# Altium integrated library Analog Devices RF IF PLL Synthesizers and VCOs.IntLib: 183 symbols (part 11 of 15)
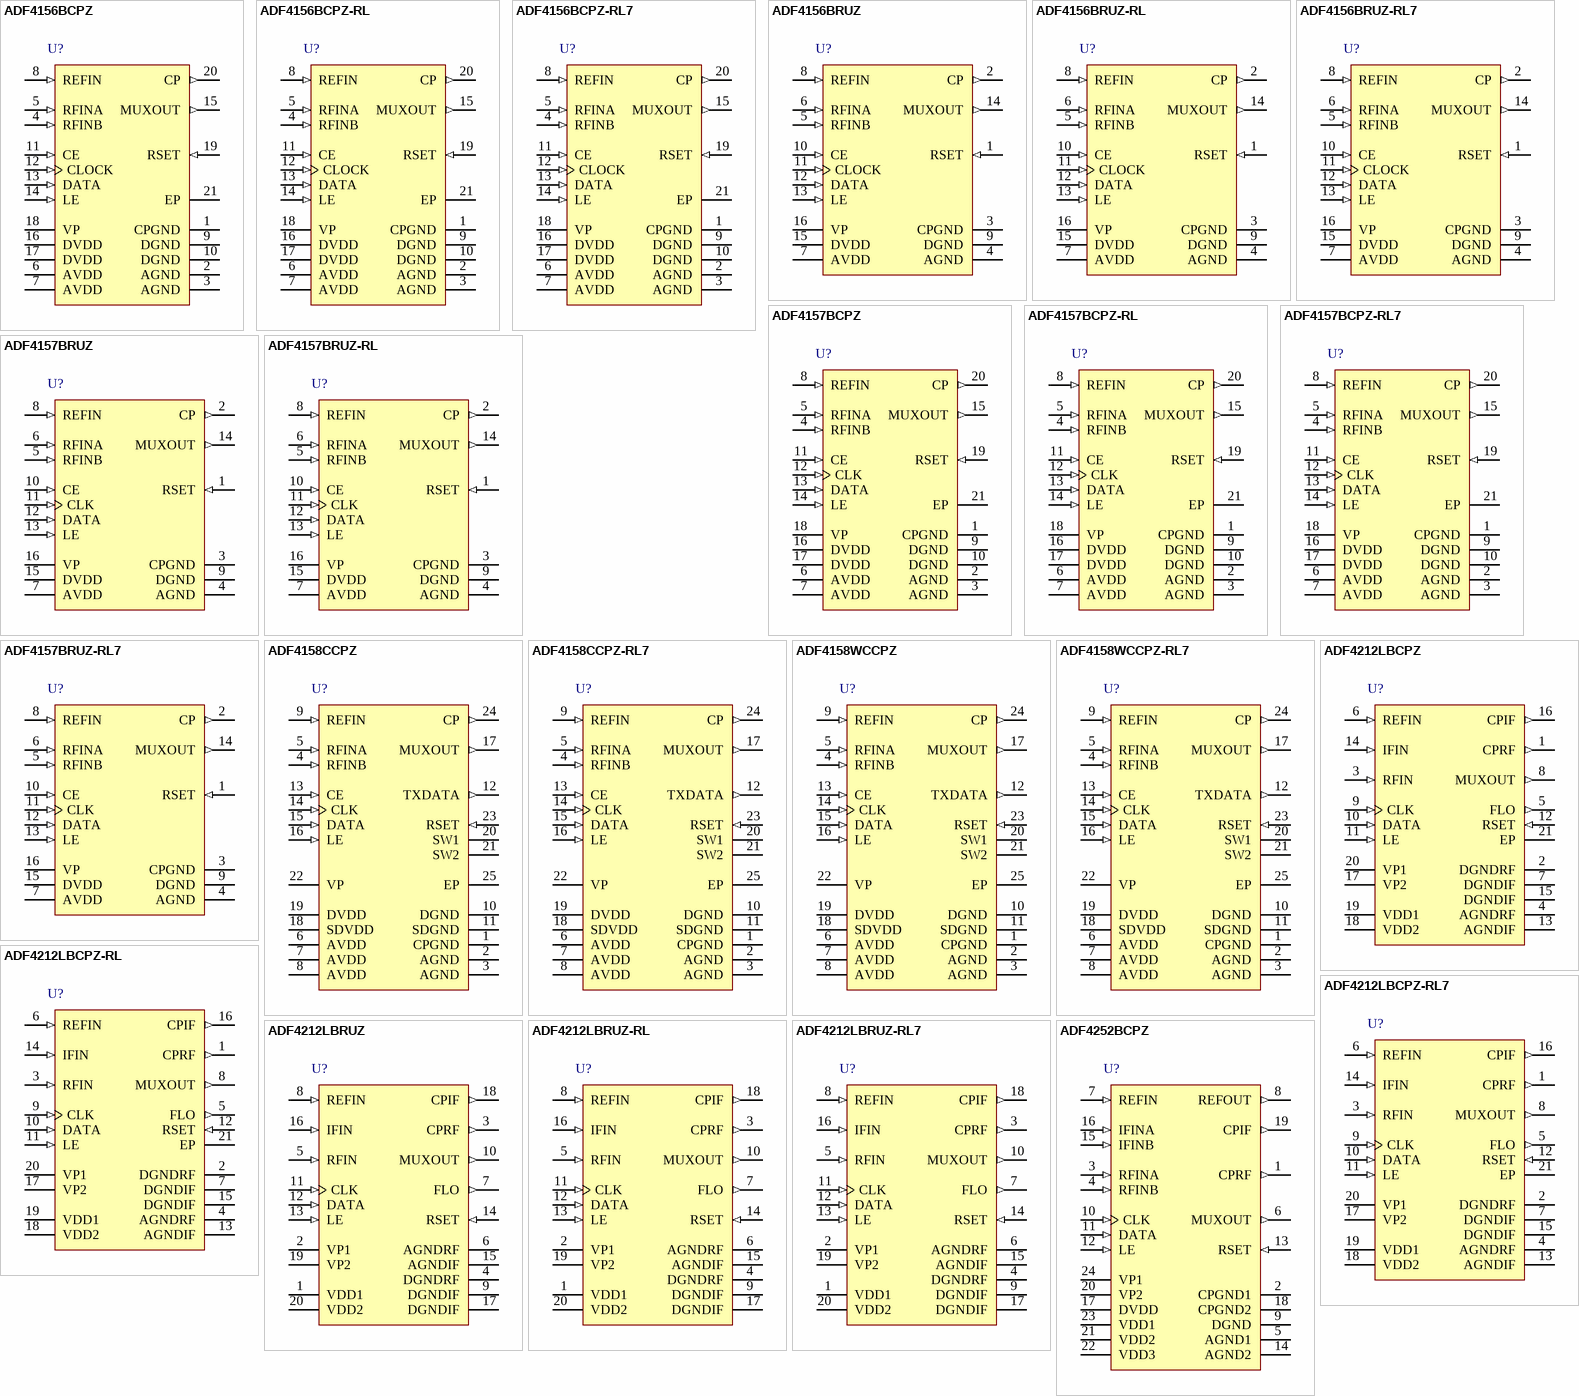
[diagram p18: symbols ADF4156BCPZ to ADF4252BCPZ]

## ADF4157BRUZ
designator U?
High Resolution 6 GHz Fractional-N Frequency Synthesizer, RU-16, Pb-Free, 96 Tube; Single/Dual: Single; Max RF Input (MHz): 6GHz; RF Prescalers: 4/5, 8/9; Max REFin (MHz): 300MHz; Norm Phase Noise (dBc/Hz): -211dBc; Supply Current: 23mA; DatasheetVersion: RevC; PackageVersion: Nov-2002; PackageReference: RU-16; PackageDescription: 16-Lead Thin Shrink Small Outline Package [TSSOP]; Code_JEDEC: MO-153AB; ComponentLink1Description: Manufacturer URL; ComponentLink1URL: www.analog.com; ComponentLink2Description: Datasheet; ComponentLink2URL: http://www.analog.com/static/imported-files/data_sheets/ADF4157.pdf; ComponentLink3Description: Package Specification; ComponentLink3URL: http://www.analog.com/static/imported-files/packages/36244347913743854010197452789RU16.pdf
footprint ADI-RU-16_N (TSOP, 16-Leads, Body 5x4.4mm, Pitch 0.65mm, IPC Medium Density)
footprint ADI-RU-16_L (TSOP, 16-Leads, Body 5x4.4mm, Pitch 0.65mm, IPC High Density)
footprint ADI-RU-16_M (TSOP, 16-Leads, Body 5x4.4mm, Pitch 0.65mm, IPC Low Density)
pins: 1 RSET (in) "Connecting a resistor between this pin and ground sets the maximum charge pump output current.", 2 CP (out) "Charge Pump Output. When enabled, this pin provides +/-ICP to the external loop filter, which, in turn, drives the external VCO.", 3 CPGND (power) "Charge Pump Ground. This is the ground return path for the charge pump.", 4 AGND (power) "Analog Ground. This is the ground return path of the prescaler.", 5 RFINB (in) "Complementary Input to the RF Prescaler. This point should be decoupled to the ground plane with a small bypass capacitor, typically 100 pF.", 6 RFINA (in) "Input to the RF Prescaler. This small-signal input is normally ac-coupled from the VCO.", 7 AVDD (power) "Positive Power Supply for the RF Section. Decoupling capacitors to the digital ground plane should be placed as close as possible to this pin. [see datasheet]", 8 REFIN (in) "Reference Input. This is a CMOS input with a nominal threshold of VDD/2 and an equivalent input resistance of 100 k ohm. [see datasheet]", 9 DGND (power) "Digital Ground.", 10 CE (in) "Chip Enable. A logic low on this pin powers down the device and puts the charge pump output into three-state mode.", 11 CLK (in) "Serial Clock Input. This serial clock is used to clock in the serial data to the registers. The data is latched into the input shift register on the CLK rising edge. [see datasheet]", 12 DATA (in) "Serial Data Input. The serial data is loaded MSB first with the three LSBs being the control bits. This input is a high impedance CMOS input.", 13 LE (in) "Load Enable, CMOS Input. When LE is high, the data stored in the input shift register is loaded into one of the five latches, with the latch selected using the control bits.", 14 MUXOUT (out) "This multiplexer output allows the lock detect, the scaled RF, or the scaled reference frequency to be accessed externally.", 15 DVDD (power) "Positive Power Supply for the Digital Section. Decoupling capacitors to the digital ground plane should be placed as close as possible to this pin. [see datasheet]", 16 VP (power) "Charge Pump Power Supply. This should be greater than or equal to VDD. In systems where VDD is 3 V, it can be set to 5.5 V and used to drive a VCO with a tuning range of up to 5.5 V."

## ADF4157BRUZ-RL
designator U?
High Resolution 6 GHz Fractional-N Frequency Synthesizer, RU-16, Pb-Free, 2500 Reel; Single/Dual: Single; Max RF Input (MHz): 6GHz; RF Prescalers: 4/5, 8/9; Max REFin (MHz): 300MHz; Norm Phase Noise (dBc/Hz): -211dBc; Supply Current: 23mA; DatasheetVersion: RevC; PackageVersion: Nov-2002; PackageReference: RU-16; PackageDescription: 16-Lead Thin Shrink Small Outline Package [TSSOP]; Code_JEDEC: MO-153AB; ComponentLink1Description: Manufacturer URL; ComponentLink1URL: www.analog.com; ComponentLink2Description: Datasheet; ComponentLink2URL: http://www.analog.com/static/imported-files/data_sheets/ADF4157.pdf; ComponentLink3Description: Package Specification; ComponentLink3URL: http://www.analog.com/static/imported-files/packages/36244347913743854010197452789RU16.pdf
footprint ADI-RU-16_N (TSOP, 16-Leads, Body 5x4.4mm, Pitch 0.65mm, IPC Medium Density)
footprint ADI-RU-16_L (TSOP, 16-Leads, Body 5x4.4mm, Pitch 0.65mm, IPC High Density)
footprint ADI-RU-16_M (TSOP, 16-Leads, Body 5x4.4mm, Pitch 0.65mm, IPC Low Density)
pins: 1 RSET (in) "Connecting a resistor between this pin and ground sets the maximum charge pump output current.", 2 CP (out) "Charge Pump Output. When enabled, this pin provides +/-ICP to the external loop filter, which, in turn, drives the external VCO.", 3 CPGND (power) "Charge Pump Ground. This is the ground return path for the charge pump.", 4 AGND (power) "Analog Ground. This is the ground return path of the prescaler.", 5 RFINB (in) "Complementary Input to the RF Prescaler. This point should be decoupled to the ground plane with a small bypass capacitor, typically 100 pF.", 6 RFINA (in) "Input to the RF Prescaler. This small-signal input is normally ac-coupled from the VCO.", 7 AVDD (power) "Positive Power Supply for the RF Section. Decoupling capacitors to the digital ground plane should be placed as close as possible to this pin. [see datasheet]", 8 REFIN (in) "Reference Input. This is a CMOS input with a nominal threshold of VDD/2 and an equivalent input resistance of 100 k ohm. [see datasheet]", 9 DGND (power) "Digital Ground.", 10 CE (in) "Chip Enable. A logic low on this pin powers down the device and puts the charge pump output into three-state mode.", 11 CLK (in) "Serial Clock Input. This serial clock is used to clock in the serial data to the registers. The data is latched into the input shift register on the CLK rising edge. [see datasheet]", 12 DATA (in) "Serial Data Input. The serial data is loaded MSB first with the three LSBs being the control bits. This input is a high impedance CMOS input.", 13 LE (in) "Load Enable, CMOS Input. When LE is high, the data stored in the input shift register is loaded into one of the five latches, with the latch selected using the control bits.", 14 MUXOUT (out) "This multiplexer output allows the lock detect, the scaled RF, or the scaled reference frequency to be accessed externally.", 15 DVDD (power) "Positive Power Supply for the Digital Section. Decoupling capacitors to the digital ground plane should be placed as close as possible to this pin. [see datasheet]", 16 VP (power) "Charge Pump Power Supply. This should be greater than or equal to VDD. In systems where VDD is 3 V, it can be set to 5.5 V and used to drive a VCO with a tuning range of up to 5.5 V."

## ADF4157BRUZ-RL7
designator U?
High Resolution 6 GHz Fractional-N Frequency Synthesizer, RU-16, Pb-Free, 1000 Reel; Single/Dual: Single; Max RF Input (MHz): 6GHz; RF Prescalers: 4/5, 8/9; Max REFin (MHz): 300MHz; Norm Phase Noise (dBc/Hz): -211dBc; Supply Current: 23mA; DatasheetVersion: RevC; PackageVersion: Nov-2002; PackageReference: RU-16; PackageDescription: 16-Lead Thin Shrink Small Outline Package [TSSOP]; Code_JEDEC: MO-153AB; ComponentLink1Description: Manufacturer URL; ComponentLink1URL: www.analog.com; ComponentLink2Description: Datasheet; ComponentLink2URL: http://www.analog.com/static/imported-files/data_sheets/ADF4157.pdf; ComponentLink3Description: Package Specification; ComponentLink3URL: http://www.analog.com/static/imported-files/packages/36244347913743854010197452789RU16.pdf
footprint ADI-RU-16_N (TSOP, 16-Leads, Body 5x4.4mm, Pitch 0.65mm, IPC Medium Density)
footprint ADI-RU-16_L (TSOP, 16-Leads, Body 5x4.4mm, Pitch 0.65mm, IPC High Density)
footprint ADI-RU-16_M (TSOP, 16-Leads, Body 5x4.4mm, Pitch 0.65mm, IPC Low Density)
pins: 1 RSET (in) "Connecting a resistor between this pin and ground sets the maximum charge pump output current.", 2 CP (out) "Charge Pump Output. When enabled, this pin provides +/-ICP to the external loop filter, which, in turn, drives the external VCO.", 3 CPGND (power) "Charge Pump Ground. This is the ground return path for the charge pump.", 4 AGND (power) "Analog Ground. This is the ground return path of the prescaler.", 5 RFINB (in) "Complementary Input to the RF Prescaler. This point should be decoupled to the ground plane with a small bypass capacitor, typically 100 pF.", 6 RFINA (in) "Input to the RF Prescaler. This small-signal input is normally ac-coupled from the VCO.", 7 AVDD (power) "Positive Power Supply for the RF Section. Decoupling capacitors to the digital ground plane should be placed as close as possible to this pin. [see datasheet]", 8 REFIN (in) "Reference Input. This is a CMOS input with a nominal threshold of VDD/2 and an equivalent input resistance of 100 k ohm. [see datasheet]", 9 DGND (power) "Digital Ground.", 10 CE (in) "Chip Enable. A logic low on this pin powers down the device and puts the charge pump output into three-state mode.", 11 CLK (in) "Serial Clock Input. This serial clock is used to clock in the serial data to the registers. The data is latched into the input shift register on the CLK rising edge. [see datasheet]", 12 DATA (in) "Serial Data Input. The serial data is loaded MSB first with the three LSBs being the control bits. This input is a high impedance CMOS input.", 13 LE (in) "Load Enable, CMOS Input. When LE is high, the data stored in the input shift register is loaded into one of the five latches, with the latch selected using the control bits.", 14 MUXOUT (out) "This multiplexer output allows the lock detect, the scaled RF, or the scaled reference frequency to be accessed externally.", 15 DVDD (power) "Positive Power Supply for the Digital Section. Decoupling capacitors to the digital ground plane should be placed as close as possible to this pin. [see datasheet]", 16 VP (power) "Charge Pump Power Supply. This should be greater than or equal to VDD. In systems where VDD is 3 V, it can be set to 5.5 V and used to drive a VCO with a tuning range of up to 5.5 V."

## ADF4158CCPZ
designator U?
Direct Modulation/Waveform Generating, 6.1 GHz Fractional-N Frequency Synthesizer, CP-24-7, Pb-Free, 490 Tray; Single/Dual: Single; Max RF Input (MHz): 6.1GHz; RF Prescalers: 4/5, 8/9; Max REFin (MHz): 260MHz; Norm Phase Noise (dBc/Hz): -216dBc; Supply Current: 23mA; DatasheetVersion: RevC; PackageVersion: 112108-A; PackageReference: CP-24-7; PackageDescription: 24-Lead Lead Frame Chip Scale Package [LFCSP_WQ]; Code_JEDEC: MO-220-WGGD; ComponentLink1Description: Manufacturer URL; ComponentLink1URL: www.analog.com; ComponentLink2Description: Datasheet; ComponentLink2URL: http://www.analog.com/static/imported-files/data_sheets/ADF4158.pdf; ComponentLink3Description: Package Specification; ComponentLink3URL: http://www.analog.com/static/imported-files/packages/PKG_PDF/LFCSP(CP)/CP_24_7.pdf
footprint ADI-CP-24-7_N (QFN, 24-Leads, Body 4x4mm, Pitch 0.5mm, Thermal Pad 2.6x2.6mm, IPC Medium Density)
footprint ADI-CP-24-7_L (QFN, 24-Leads, Body 4x4mm, Pitch 0.5mm, Thermal Pad 2.6x2.6mm, IPC High Density)
footprint ADI-CP-24-7_M (QFN, 24-Leads, Body 4x4mm, Pitch 0.5mm, Thermal Pad 2.6x2.6mm, IPC Low Density)
pins: 1 CPGND (power) "Charge Pump Ground. This is the ground return path for the charge pump.", 2 AGND (power) "Analog Ground. This is the ground return path of the prescaler.", 3 AGND (power) "Analog Ground. This is the ground return path of the prescaler.", 4 RFINB (in) "Complementary Input to the RF Prescaler. Decouple this point to the ground plane with a small bypass capacitor, typically 100 pF.", 5 RFINA (in) "Input to the RF Prescaler. This small-signal input is normally ac-coupled from the VCO.", 6 AVDD (power) "Positive Power Supply for the RF Section. Place decoupling capacitors to the digital ground plane as close as possible to this pin. AVDD must have the same voltage as DVDD.", 7 AVDD (power) "Positive Power Supply for the RF Section. Place decoupling capacitors to the digital ground plane as close as possible to this pin. AVDD must have the same voltage as DVDD.", 8 AVDD (power) "Positive Power Supply for the RF Section. Place decoupling capacitors to the digital ground plane as close as possible to this pin. AVDD must have the same voltage as DVDD.", 9 REFIN (in) "Reference Input. This is a CMOS input with a nominal threshold of VDD/2 and an equivalent input resistance of 100 k ohm. [see datasheet]", 10 DGND (power) "Digital Ground.", 11 SDGND (power) "Digital Sigma-Delta Modulator Ground. Ground return path for the Sigma-Delta modulator.", 12 TXDATA (out) "Tx Data Pin. Provide data to be transmitted in FSK or PSK mode on this pin.", 13 CE (in) "Chip Enable. A logic low on this pin powers down the device and puts the charge pump output into three-state mode.", 14 CLK (in) "Serial Clock Input. This serial clock is used to clock in the serial data to the registers. The data is latched into the shift register on the CLK rising edge. [see datasheet]", 15 DATA (in) "Serial Data Input. The serial data is loaded MSB first with the three LSBs being the control bits. This input is a high impedance CMOS input.", 16 LE (in) "Load Enable, CMOS Input. When LE is high, the data stored in the shift registers is loaded into one of the eight latches, with the latch being selected using the control bits.", 17 MUXOUT (out) "Multiplexer Output. This pin allows either the RF lock detect, the scaled RF, or the scaled reference frequency to be accessed externally.", 18 SDVDD (power) "Power Supply Pin for the Digital Sigma-Delta Modulator. This pin should be the same voltage as AVDD. Place decoupling capacitors to the ground plane as close as possible to this pin.", 19 DVDD (power) "Positive Power Supply for the Digital Section. Place decoupling capacitors to the digital ground plane as close as possible to this pin. DVDD must have the same voltage as AVDD.", 20 SW1 "Switches for Fast Lock.", 21 SW2 "Switches for Fast Lock.", 22 VP (power) "Charge Pump Power Supply. This should be greater than or equal to VDD. In systems where VDD is 3 V, it can be set to 5.5 V and used to drive a VCO with a tuning range of up to 5.5 V.", 23 RSET (in) "Connecting a resistor between this pin and ground sets the maximum charge pump output current.", 24 CP (out) "Charge Pump Output. When enabled, this provides +/-ICP to the external loop filter, which in turn drives the external VCO.", 25 EP (power) "Exposed Paddle. The LFCSP has an exposed paddle that must be connected to GND."

## ADF4158CCPZ-RL7
designator U?
Direct Modulation/Waveform Generating, 6.1 GHz Fractional-N Frequency Synthesizer, CP-24-7, Pb-Free, 1500 Reel; Single/Dual: Single; Max RF Input (MHz): 6.1GHz; RF Prescalers: 4/5, 8/9; Max REFin (MHz): 260MHz; Norm Phase Noise (dBc/Hz): -216dBc; Supply Current: 23mA; DatasheetVersion: RevC; PackageVersion: 112108-A; PackageReference: CP-24-7; PackageDescription: 24-Lead Lead Frame Chip Scale Package [LFCSP_WQ]; Code_JEDEC: MO-220-WGGD; ComponentLink1Description: Manufacturer URL; ComponentLink1URL: www.analog.com; ComponentLink2Description: Datasheet; ComponentLink2URL: http://www.analog.com/static/imported-files/data_sheets/ADF4158.pdf; ComponentLink3Description: Package Specification; ComponentLink3URL: http://www.analog.com/static/imported-files/packages/PKG_PDF/LFCSP(CP)/CP_24_7.pdf
footprint ADI-CP-24-7_N (QFN, 24-Leads, Body 4x4mm, Pitch 0.5mm, Thermal Pad 2.6x2.6mm, IPC Medium Density)
footprint ADI-CP-24-7_L (QFN, 24-Leads, Body 4x4mm, Pitch 0.5mm, Thermal Pad 2.6x2.6mm, IPC High Density)
footprint ADI-CP-24-7_M (QFN, 24-Leads, Body 4x4mm, Pitch 0.5mm, Thermal Pad 2.6x2.6mm, IPC Low Density)
pins: 1 CPGND (power) "Charge Pump Ground. This is the ground return path for the charge pump.", 2 AGND (power) "Analog Ground. This is the ground return path of the prescaler.", 3 AGND (power) "Analog Ground. This is the ground return path of the prescaler.", 4 RFINB (in) "Complementary Input to the RF Prescaler. Decouple this point to the ground plane with a small bypass capacitor, typically 100 pF.", 5 RFINA (in) "Input to the RF Prescaler. This small-signal input is normally ac-coupled from the VCO.", 6 AVDD (power) "Positive Power Supply for the RF Section. Place decoupling capacitors to the digital ground plane as close as possible to this pin. AVDD must have the same voltage as DVDD.", 7 AVDD (power) "Positive Power Supply for the RF Section. Place decoupling capacitors to the digital ground plane as close as possible to this pin. AVDD must have the same voltage as DVDD.", 8 AVDD (power) "Positive Power Supply for the RF Section. Place decoupling capacitors to the digital ground plane as close as possible to this pin. AVDD must have the same voltage as DVDD.", 9 REFIN (in) "Reference Input. This is a CMOS input with a nominal threshold of VDD/2 and an equivalent input resistance of 100 k ohm. [see datasheet]", 10 DGND (power) "Digital Ground.", 11 SDGND (power) "Digital Sigma-Delta Modulator Ground. Ground return path for the Sigma-Delta modulator.", 12 TXDATA (out) "Tx Data Pin. Provide data to be transmitted in FSK or PSK mode on this pin.", 13 CE (in) "Chip Enable. A logic low on this pin powers down the device and puts the charge pump output into three-state mode.", 14 CLK (in) "Serial Clock Input. This serial clock is used to clock in the serial data to the registers. The data is latched into the shift register on the CLK rising edge. [see datasheet]", 15 DATA (in) "Serial Data Input. The serial data is loaded MSB first with the three LSBs being the control bits. This input is a high impedance CMOS input.", 16 LE (in) "Load Enable, CMOS Input. When LE is high, the data stored in the shift registers is loaded into one of the eight latches, with the latch being selected using the control bits.", 17 MUXOUT (out) "Multiplexer Output. This pin allows either the RF lock detect, the scaled RF, or the scaled reference frequency to be accessed externally.", 18 SDVDD (power) "Power Supply Pin for the Digital Sigma-Delta Modulator. This pin should be the same voltage as AVDD. Place decoupling capacitors to the ground plane as close as possible to this pin.", 19 DVDD (power) "Positive Power Supply for the Digital Section. Place decoupling capacitors to the digital ground plane as close as possible to this pin. DVDD must have the same voltage as AVDD.", 20 SW1 "Switches for Fast Lock.", 21 SW2 "Switches for Fast Lock.", 22 VP (power) "Charge Pump Power Supply. This should be greater than or equal to VDD. In systems where VDD is 3 V, it can be set to 5.5 V and used to drive a VCO with a tuning range of up to 5.5 V.", 23 RSET (in) "Connecting a resistor between this pin and ground sets the maximum charge pump output current.", 24 CP (out) "Charge Pump Output. When enabled, this provides +/-ICP to the external loop filter, which in turn drives the external VCO.", 25 EP (power) "Exposed Paddle. The LFCSP has an exposed paddle that must be connected to GND."

## ADF4158WCCPZ
designator U?
Direct Modulation/Waveform Generating, 6.1 GHz Fractional-N Frequency Synthesizer, CP-24-7, Pb-Free, Tray; Single/Dual: Single; Max RF Input (MHz): 6.1GHz; RF Prescalers: 4/5, 8/9; Max REFin (MHz): 260MHz; Norm Phase Noise (dBc/Hz): -216dBc; Supply Current: 23mA; DatasheetVersion: RevC; PackageVersion: 112108-A; PackageReference: CP-24-7; PackageDescription: 24-Lead Lead Frame Chip Scale Package [LFCSP_WQ]; Code_JEDEC: MO-220-WGGD; ComponentLink1Description: Manufacturer URL; ComponentLink1URL: www.analog.com; ComponentLink2Description: Datasheet; ComponentLink2URL: http://www.analog.com/static/imported-files/data_sheets/ADF4158.pdf; ComponentLink3Description: Package Specification; ComponentLink3URL: http://www.analog.com/static/imported-files/packages/PKG_PDF/LFCSP(CP)/CP_24_7.pdf
footprint ADI-CP-24-7_N (QFN, 24-Leads, Body 4x4mm, Pitch 0.5mm, Thermal Pad 2.6x2.6mm, IPC Medium Density)
footprint ADI-CP-24-7_L (QFN, 24-Leads, Body 4x4mm, Pitch 0.5mm, Thermal Pad 2.6x2.6mm, IPC High Density)
footprint ADI-CP-24-7_M (QFN, 24-Leads, Body 4x4mm, Pitch 0.5mm, Thermal Pad 2.6x2.6mm, IPC Low Density)
pins: 1 CPGND (power) "Charge Pump Ground. This is the ground return path for the charge pump.", 2 AGND (power) "Analog Ground. This is the ground return path of the prescaler.", 3 AGND (power) "Analog Ground. This is the ground return path of the prescaler.", 4 RFINB (in) "Complementary Input to the RF Prescaler. Decouple this point to the ground plane with a small bypass capacitor, typically 100 pF.", 5 RFINA (in) "Input to the RF Prescaler. This small-signal input is normally ac-coupled from the VCO.", 6 AVDD (power) "Positive Power Supply for the RF Section. Place decoupling capacitors to the digital ground plane as close as possible to this pin. AVDD must have the same voltage as DVDD.", 7 AVDD (power) "Positive Power Supply for the RF Section. Place decoupling capacitors to the digital ground plane as close as possible to this pin. AVDD must have the same voltage as DVDD.", 8 AVDD (power) "Positive Power Supply for the RF Section. Place decoupling capacitors to the digital ground plane as close as possible to this pin. AVDD must have the same voltage as DVDD.", 9 REFIN (in) "Reference Input. This is a CMOS input with a nominal threshold of VDD/2 and an equivalent input resistance of 100 k ohm. [see datasheet]", 10 DGND (power) "Digital Ground.", 11 SDGND (power) "Digital Sigma-Delta Modulator Ground. Ground return path for the Sigma-Delta modulator.", 12 TXDATA (out) "Tx Data Pin. Provide data to be transmitted in FSK or PSK mode on this pin.", 13 CE (in) "Chip Enable. A logic low on this pin powers down the device and puts the charge pump output into three-state mode.", 14 CLK (in) "Serial Clock Input. This serial clock is used to clock in the serial data to the registers. The data is latched into the shift register on the CLK rising edge. [see datasheet]", 15 DATA (in) "Serial Data Input. The serial data is loaded MSB first with the three LSBs being the control bits. This input is a high impedance CMOS input.", 16 LE (in) "Load Enable, CMOS Input. When LE is high, the data stored in the shift registers is loaded into one of the eight latches, with the latch being selected using the control bits.", 17 MUXOUT (out) "Multiplexer Output. This pin allows either the RF lock detect, the scaled RF, or the scaled reference frequency to be accessed externally.", 18 SDVDD (power) "Power Supply Pin for the Digital Sigma-Delta Modulator. This pin should be the same voltage as AVDD. Place decoupling capacitors to the ground plane as close as possible to this pin.", 19 DVDD (power) "Positive Power Supply for the Digital Section. Place decoupling capacitors to the digital ground plane as close as possible to this pin. DVDD must have the same voltage as AVDD.", 20 SW1 "Switches for Fast Lock.", 21 SW2 "Switches for Fast Lock.", 22 VP (power) "Charge Pump Power Supply. This should be greater than or equal to VDD. In systems where VDD is 3 V, it can be set to 5.5 V and used to drive a VCO with a tuning range of up to 5.5 V.", 23 RSET (in) "Connecting a resistor between this pin and ground sets the maximum charge pump output current.", 24 CP (out) "Charge Pump Output. When enabled, this provides +/-ICP to the external loop filter, which in turn drives the external VCO.", 25 EP (power) "Exposed Paddle. The LFCSP has an exposed paddle that must be connected to GND."

## ADF4158WCCPZ-RL7
designator U?
Direct Modulation/Waveform Generating, 6.1 GHz Fractional-N Frequency Synthesizer, CP-24-7, Pb-Free, 1500 Reel; Single/Dual: Single; Max RF Input (MHz): 6.1GHz; RF Prescalers: 4/5, 8/9; Max REFin (MHz): 260MHz; Norm Phase Noise (dBc/Hz): -216dBc; Supply Current: 23mA; DatasheetVersion: RevC; PackageVersion: 112108-A; PackageReference: CP-24-7; PackageDescription: 24-Lead Lead Frame Chip Scale Package [LFCSP_WQ]; Code_JEDEC: MO-220-WGGD; ComponentLink1Description: Manufacturer URL; ComponentLink1URL: www.analog.com; ComponentLink2Description: Datasheet; ComponentLink2URL: http://www.analog.com/static/imported-files/data_sheets/ADF4158.pdf; ComponentLink3Description: Package Specification; ComponentLink3URL: http://www.analog.com/static/imported-files/packages/PKG_PDF/LFCSP(CP)/CP_24_7.pdf
footprint ADI-CP-24-7_N (QFN, 24-Leads, Body 4x4mm, Pitch 0.5mm, Thermal Pad 2.6x2.6mm, IPC Medium Density)
footprint ADI-CP-24-7_L (QFN, 24-Leads, Body 4x4mm, Pitch 0.5mm, Thermal Pad 2.6x2.6mm, IPC High Density)
footprint ADI-CP-24-7_M (QFN, 24-Leads, Body 4x4mm, Pitch 0.5mm, Thermal Pad 2.6x2.6mm, IPC Low Density)
pins: 1 CPGND (power) "Charge Pump Ground. This is the ground return path for the charge pump.", 2 AGND (power) "Analog Ground. This is the ground return path of the prescaler.", 3 AGND (power) "Analog Ground. This is the ground return path of the prescaler.", 4 RFINB (in) "Complementary Input to the RF Prescaler. Decouple this point to the ground plane with a small bypass capacitor, typically 100 pF.", 5 RFINA (in) "Input to the RF Prescaler. This small-signal input is normally ac-coupled from the VCO.", 6 AVDD (power) "Positive Power Supply for the RF Section. Place decoupling capacitors to the digital ground plane as close as possible to this pin. AVDD must have the same voltage as DVDD.", 7 AVDD (power) "Positive Power Supply for the RF Section. Place decoupling capacitors to the digital ground plane as close as possible to this pin. AVDD must have the same voltage as DVDD.", 8 AVDD (power) "Positive Power Supply for the RF Section. Place decoupling capacitors to the digital ground plane as close as possible to this pin. AVDD must have the same voltage as DVDD.", 9 REFIN (in) "Reference Input. This is a CMOS input with a nominal threshold of VDD/2 and an equivalent input resistance of 100 k ohm. [see datasheet]", 10 DGND (power) "Digital Ground.", 11 SDGND (power) "Digital Sigma-Delta Modulator Ground. Ground return path for the Sigma-Delta modulator.", 12 TXDATA (out) "Tx Data Pin. Provide data to be transmitted in FSK or PSK mode on this pin.", 13 CE (in) "Chip Enable. A logic low on this pin powers down the device and puts the charge pump output into three-state mode.", 14 CLK (in) "Serial Clock Input. This serial clock is used to clock in the serial data to the registers. The data is latched into the shift register on the CLK rising edge. [see datasheet]", 15 DATA (in) "Serial Data Input. The serial data is loaded MSB first with the three LSBs being the control bits. This input is a high impedance CMOS input.", 16 LE (in) "Load Enable, CMOS Input. When LE is high, the data stored in the shift registers is loaded into one of the eight latches, with the latch being selected using the control bits.", 17 MUXOUT (out) "Multiplexer Output. This pin allows either the RF lock detect, the scaled RF, or the scaled reference frequency to be accessed externally.", 18 SDVDD (power) "Power Supply Pin for the Digital Sigma-Delta Modulator. This pin should be the same voltage as AVDD. Place decoupling capacitors to the ground plane as close as possible to this pin.", 19 DVDD (power) "Positive Power Supply for the Digital Section. Place decoupling capacitors to the digital ground plane as close as possible to this pin. DVDD must have the same voltage as AVDD.", 20 SW1 "Switches for Fast Lock.", 21 SW2 "Switches for Fast Lock.", 22 VP (power) "Charge Pump Power Supply. This should be greater than or equal to VDD. In systems where VDD is 3 V, it can be set to 5.5 V and used to drive a VCO with a tuning range of up to 5.5 V.", 23 RSET (in) "Connecting a resistor between this pin and ground sets the maximum charge pump output current.", 24 CP (out) "Charge Pump Output. When enabled, this provides +/-ICP to the external loop filter, which in turn drives the external VCO.", 25 EP (power) "Exposed Paddle. The LFCSP has an exposed paddle that must be connected to GND."

## ADF4212LBCPZ
designator U?
Dual Low Power PLL Frequency Synthesizer, CP-20-1, Pb-Free, 490 Tray; Max RF Input (MHz): 2.4GHz; RF Prescalers: 16/17, 32/33, 64/65, 8/9; Max REFin (MHz): 150MHz; Norm Phase Noise (dBc/Hz): -215dBc; Frequency Range: 200MHz-2.4GHz; Supply Current: 7.5mA; DatasheetVersion: Rev. C; PackageVersion: 012508-B; PackageReference: CP-20-1; PackageDescription: 20-Lead Lead Frame Chip Scale Package [LFCSP_VQ]; Single/Dual: Dual; Code_JEDEC: MO-220-VGGD-1; ComponentLink1Description: Manufacturer URL; ComponentLink1URL: www.analog.com; ComponentLink2Description: Datasheet; ComponentLink2URL: http://www.analog.com/static/imported-files/data_sheets/ADF4212L.pdf; ComponentLink3Description: Package Specification; ComponentLink3URL: http://www.analog.com/static/imported-files/packages/PKG_PDF/LFCSP(CP)/CP_20_1.pdf
footprint ADI-CP-20-1_N (QFN, 20-Leads, Body 4x4mm, Pitch 0.5mm, Thermal Pad 2.2x2.2mm, IPC Medium Density)
footprint ADI-CP-20-1_L (QFN, 20-Leads, Body 4x4mm, Pitch 0.5mm, Thermal Pad 2.2x2.2mm, IPC High Density)
footprint ADI-CP-20-1_M (QFN, 20-Leads, Body 4x4mm, Pitch 0.5mm, Thermal Pad 2.2x2.2mm, IPC Low Density)
pins: 1 CPRF (out) "RF Charge Pump Output. When enabled, this provides +/-ICP to the external RF loop filter, which in turn drives the external RF VCO", 2 DGNDRF (power) "Digital Ground Pin for the RF Digital Circuitry", 3 RFIN (in) "Input to the RF Prescaler. This small signal input is normally ac-coupled from the RF VCO", 4 AGNDRF (power) "Ground Pin for the RF Analog Circuitry", 5 FLO (out) "Multiplexed Output of RF/IF Programmable or Reference Dividers, RF/IF Fastlock Mode. CMOS output", 6 REFIN (in) "Reference Input. This is a CMOS input with a nominal threshold of VDD/2 and an equivalent input resistance of 100 k ohm. See Figure 26. [see datasheet]", 7 DGNDIF (power) "Digital Ground Pin for the IF Digital, Interface, and Control Circuitry", 8 MUXOUT (out) "This multiplexer output allows either the IF/RF lock detect, the scaled RF, the scaled IF, or the scaled reference frequency to be accessed externally", 9 CLK (in) "Serial Clock Input. This serial clock is used to clock in the serial data to the registers. The data is latched into the 24-bit shift register on the CLK rising edge. [see datasheet]", 10 DATA (in) "Serial Data Input. The serial data is loaded MSB first with the two LSBs being the control bits. This input is a high impedance CMOS input", 11 LE (in) "Load Enable, CMOS Input. When LE goes high, the data stored in the shift registers is loaded into one of the four latches, with the latch selected using the control bits", 12 RSET (in) "Connecting a resistor between this pin and ground sets the maximum RF and IF charge pump output current. The nominal voltage potential at the RSET pin is 0.66 V", 13 AGNDIF (power) "Ground Pin for the IF Analog Circuitry", 14 IFIN (in) "Input to the IF Prescaler. This small signal input is normally ac-coupled from the IF VCO", 15 DGNDIF (power) "Digital Ground Pin for the IF Digital, Interface, and Control Circuitry", 16 CPIF (out) "Output from the IF Charge Pump. This is normally connected to a loop filter that drives the input to an external VCO", 17 VP2 (power) "Power Supply for the IF Charge Pump. This should be greater than or equal to VDD2.", 18 VDD2 (power) "Power Supply for the IF, Digital, and Interface Section. Decoupling capacitors to the ground plane should be placed as close as possible to this pin. [see datasheet]", 19 VDD1 (power) "Power Supply for the RF Section. Decoupling capacitors to the ground plane should be placed as close as possible to this pin. VDD1 should have a value of between 2.6 V and 3.3 V. [see datasheet]", 20 VP1 (power) "Power Supply for the IF Charge Pump. This should be greater than or equal to VDD2.", 21 EP (power) "It is recommended that the exposed pad be thermally connected to a copper plane for enhanced thermal performance. The pad should be grounded as well"

## ADF4212LBCPZ-RL
designator U?
Dual Low Power PLL Frequency Synthesizer, CP-20-1, Pb-Free, 5000 Reel; Max RF Input (MHz): 2.4GHz; RF Prescalers: 16/17, 32/33, 64/65, 8/9; Max REFin (MHz): 150MHz; Norm Phase Noise (dBc/Hz): -215dBc; Frequency Range: 200MHz-2.4GHz; Supply Current: 7.5mA; DatasheetVersion: Rev. C; PackageVersion: 012508-B; PackageReference: CP-20-1; PackageDescription: 20-Lead Lead Frame Chip Scale Package [LFCSP_VQ]; Single/Dual: Dual; Code_JEDEC: MO-220-VGGD-1; ComponentLink1Description: Manufacturer URL; ComponentLink1URL: www.analog.com; ComponentLink2Description: Datasheet; ComponentLink2URL: http://www.analog.com/static/imported-files/data_sheets/ADF4212L.pdf; ComponentLink3Description: Package Specification; ComponentLink3URL: http://www.analog.com/static/imported-files/packages/PKG_PDF/LFCSP(CP)/CP_20_1.pdf
footprint ADI-CP-20-1_N (QFN, 20-Leads, Body 4x4mm, Pitch 0.5mm, Thermal Pad 2.2x2.2mm, IPC Medium Density)
footprint ADI-CP-20-1_L (QFN, 20-Leads, Body 4x4mm, Pitch 0.5mm, Thermal Pad 2.2x2.2mm, IPC High Density)
footprint ADI-CP-20-1_M (QFN, 20-Leads, Body 4x4mm, Pitch 0.5mm, Thermal Pad 2.2x2.2mm, IPC Low Density)
pins: 1 CPRF (out) "RF Charge Pump Output. When enabled, this provides +/-ICP to the external RF loop filter, which in turn drives the external RF VCO", 2 DGNDRF (power) "Digital Ground Pin for the RF Digital Circuitry", 3 RFIN (in) "Input to the RF Prescaler. This small signal input is normally ac-coupled from the RF VCO", 4 AGNDRF (power) "Ground Pin for the RF Analog Circuitry", 5 FLO (out) "Multiplexed Output of RF/IF Programmable or Reference Dividers, RF/IF Fastlock Mode. CMOS output", 6 REFIN (in) "Reference Input. This is a CMOS input with a nominal threshold of VDD/2 and an equivalent input resistance of 100 k ohm. See Figure 26. [see datasheet]", 7 DGNDIF (power) "Digital Ground Pin for the IF Digital, Interface, and Control Circuitry", 8 MUXOUT (out) "This multiplexer output allows either the IF/RF lock detect, the scaled RF, the scaled IF, or the scaled reference frequency to be accessed externally", 9 CLK (in) "Serial Clock Input. This serial clock is used to clock in the serial data to the registers. The data is latched into the 24-bit shift register on the CLK rising edge. [see datasheet]", 10 DATA (in) "Serial Data Input. The serial data is loaded MSB first with the two LSBs being the control bits. This input is a high impedance CMOS input", 11 LE (in) "Load Enable, CMOS Input. When LE goes high, the data stored in the shift registers is loaded into one of the four latches, with the latch selected using the control bits", 12 RSET (in) "Connecting a resistor between this pin and ground sets the maximum RF and IF charge pump output current. The nominal voltage potential at the RSET pin is 0.66 V", 13 AGNDIF (power) "Ground Pin for the IF Analog Circuitry", 14 IFIN (in) "Input to the IF Prescaler. This small signal input is normally ac-coupled from the IF VCO", 15 DGNDIF (power) "Digital Ground Pin for the IF Digital, Interface, and Control Circuitry", 16 CPIF (out) "Output from the IF Charge Pump. This is normally connected to a loop filter that drives the input to an external VCO", 17 VP2 (power) "Power Supply for the IF Charge Pump. This should be greater than or equal to VDD2.", 18 VDD2 (power) "Power Supply for the IF, Digital, and Interface Section. Decoupling capacitors to the ground plane should be placed as close as possible to this pin. [see datasheet]", 19 VDD1 (power) "Power Supply for the RF Section. Decoupling capacitors to the ground plane should be placed as close as possible to this pin. VDD1 should have a value of between 2.6 V and 3.3 V. [see datasheet]", 20 VP1 (power) "Power Supply for the IF Charge Pump. This should be greater than or equal to VDD2.", 21 EP (power) "It is recommended that the exposed pad be thermally connected to a copper plane for enhanced thermal performance. The pad should be grounded as well"

## ADF4212LBCPZ-RL7
designator U?
Dual Low Power PLL Frequency Synthesizer, CP-20-1, Pb-Free, 1500 Reel; Max RF Input (MHz): 2.4GHz; RF Prescalers: 16/17, 32/33, 64/65, 8/9; Max REFin (MHz): 150MHz; Norm Phase Noise (dBc/Hz): -215dBc; Frequency Range: 200MHz-2.4GHz; Supply Current: 7.5mA; DatasheetVersion: Rev. C; PackageVersion: 012508-B; PackageReference: CP-20-1; PackageDescription: 20-Lead Lead Frame Chip Scale Package [LFCSP_VQ]; Single/Dual: Dual; Code_JEDEC: MO-220-VGGD-1; ComponentLink1Description: Manufacturer URL; ComponentLink1URL: www.analog.com; ComponentLink2Description: Datasheet; ComponentLink2URL: http://www.analog.com/static/imported-files/data_sheets/ADF4212L.pdf; ComponentLink3Description: Package Specification; ComponentLink3URL: http://www.analog.com/static/imported-files/packages/PKG_PDF/LFCSP(CP)/CP_20_1.pdf
footprint ADI-CP-20-1_N (QFN, 20-Leads, Body 4x4mm, Pitch 0.5mm, Thermal Pad 2.2x2.2mm, IPC Medium Density)
footprint ADI-CP-20-1_L (QFN, 20-Leads, Body 4x4mm, Pitch 0.5mm, Thermal Pad 2.2x2.2mm, IPC High Density)
footprint ADI-CP-20-1_M (QFN, 20-Leads, Body 4x4mm, Pitch 0.5mm, Thermal Pad 2.2x2.2mm, IPC Low Density)
pins: 1 CPRF (out) "RF Charge Pump Output. When enabled, this provides +/-ICP to the external RF loop filter, which in turn drives the external RF VCO", 2 DGNDRF (power) "Digital Ground Pin for the RF Digital Circuitry", 3 RFIN (in) "Input to the RF Prescaler. This small signal input is normally ac-coupled from the RF VCO", 4 AGNDRF (power) "Ground Pin for the RF Analog Circuitry", 5 FLO (out) "Multiplexed Output of RF/IF Programmable or Reference Dividers, RF/IF Fastlock Mode. CMOS output", 6 REFIN (in) "Reference Input. This is a CMOS input with a nominal threshold of VDD/2 and an equivalent input resistance of 100 k ohm. See Figure 26. [see datasheet]", 7 DGNDIF (power) "Digital Ground Pin for the IF Digital, Interface, and Control Circuitry", 8 MUXOUT (out) "This multiplexer output allows either the IF/RF lock detect, the scaled RF, the scaled IF, or the scaled reference frequency to be accessed externally", 9 CLK (in) "Serial Clock Input. This serial clock is used to clock in the serial data to the registers. The data is latched into the 24-bit shift register on the CLK rising edge. [see datasheet]", 10 DATA (in) "Serial Data Input. The serial data is loaded MSB first with the two LSBs being the control bits. This input is a high impedance CMOS input", 11 LE (in) "Load Enable, CMOS Input. When LE goes high, the data stored in the shift registers is loaded into one of the four latches, with the latch selected using the control bits", 12 RSET (in) "Connecting a resistor between this pin and ground sets the maximum RF and IF charge pump output current. The nominal voltage potential at the RSET pin is 0.66 V", 13 AGNDIF (power) "Ground Pin for the IF Analog Circuitry", 14 IFIN (in) "Input to the IF Prescaler. This small signal input is normally ac-coupled from the IF VCO", 15 DGNDIF (power) "Digital Ground Pin for the IF Digital, Interface, and Control Circuitry", 16 CPIF (out) "Output from the IF Charge Pump. This is normally connected to a loop filter that drives the input to an external VCO", 17 VP2 (power) "Power Supply for the IF Charge Pump. This should be greater than or equal to VDD2.", 18 VDD2 (power) "Power Supply for the IF, Digital, and Interface Section. Decoupling capacitors to the ground plane should be placed as close as possible to this pin. [see datasheet]", 19 VDD1 (power) "Power Supply for the RF Section. Decoupling capacitors to the ground plane should be placed as close as possible to this pin. VDD1 should have a value of between 2.6 V and 3.3 V. [see datasheet]", 20 VP1 (power) "Power Supply for the IF Charge Pump. This should be greater than or equal to VDD2.", 21 EP (power) "It is recommended that the exposed pad be thermally connected to a copper plane for enhanced thermal performance. The pad should be grounded as well"

## ADF4212LBRUZ
designator U?
Dual Low Power PLL Frequency Synthesizer, RU-20, Pb-Free, 75 Tube; Max RF Input (MHz): 2.4GHz; RF Prescalers: 16/17, 32/33, 64/65, 8/9; Max REFin (MHz): 150MHz; Norm Phase Noise (dBc/Hz): -215dBc; Frequency Range: 200MHz-2.4GHz; Supply Current: 7.5mA; DatasheetVersion: Rev. C; PackageVersion: 2000; PackageReference: RU-20; PackageDescription: 20-Lead Thin Shrink Small Outline Package [TSSOP]; Single/Dual: Dual; Code_JEDEC: MO-153AC; ComponentLink1Description: Manufacturer URL; ComponentLink1URL: www.analog.com; ComponentLink2Description: Datasheet; ComponentLink2URL: http://www.analog.com/static/imported-files/data_sheets/ADF4212L.pdf; ComponentLink3Description: Package Specification; ComponentLink3URL: http://www.analog.com/static/imported-files/packages/364515793657813558433715854054607941441RU20.pdf
footprint ADI-RU-20_N (TSOP, 20-Leads, Body 6.5x4.4mm, Pitch 0.65mm, IPC Medium Density)
footprint ADI-RU-20_L (TSOP, 20-Leads, Body 6.5x4.4mm, Pitch 0.65mm, IPC High Density)
footprint ADI-RU-20_M (TSOP, 20-Leads, Body 6.5x4.4mm, Pitch 0.65mm, IPC Low Density)
pins: 1 VDD1 (power) "Power Supply for the RF Section. Decoupling capacitors to the ground plane should be placed as close as possible to this pin. VDD1 should have a value of between 2.6 V and 3.3 V. [see datasheet]", 2 VP1 (power) "Power Supply for the RF Charge Pump.", 3 CPRF (out) "RF Charge Pump Output. When enabled, this provides +/-ICP to the external RF loop filter, which in turn drives the external RF VCO", 4 DGNDRF (power) "Digital Ground Pin for the RF Digital Circuitry", 5 RFIN (in) "Input to the RF Prescaler. This small signal input is normally ac-coupled from the RF VCO", 6 AGNDRF (power) "Ground Pin for the RF Analog Circuitry", 7 FLO (out) "Multiplexed Output of RF/IF Programmable or Reference Dividers, RF/IF Fastlock Mode. CMOS output", 8 REFIN (in) "Reference Input. This is a CMOS input with a nominal threshold of VDD/2 and an equivalent input resistance of 100 k ohm. See Figure 26. [see datasheet]", 9 DGNDIF (power) "Digital Ground Pin for the IF Digital, Interface, and Control Circuitry", 10 MUXOUT (out) "This multiplexer output allows either the IF/RF lock detect, the scaled RF, the scaled IF, or the scaled reference frequency to be accessed externally", 11 CLK (in) "Serial Clock Input. This serial clock is used to clock in the serial data to the registers. The data is latched into the 24-bit shift register on the CLK rising edge. [see datasheet]", 12 DATA (in) "Serial Data Input. The serial data is loaded MSB first with the two LSBs being the control bits. This input is a high impedance CMOS input", 13 LE (in) "Load Enable, CMOS Input. When LE goes high, the data stored in the shift registers is loaded into one of the four latches, with the latch selected using the control bits", 14 RSET (in) "Connecting a resistor between this pin and ground sets the maximum RF and IF charge pump output current. The nominal voltage potential at the RSET pin is 0.66 V", 15 AGNDIF (power) "Ground Pin for the IF Analog Circuitry", 16 IFIN (in) "Input to the IF Prescaler. This small signal input is normally ac-coupled from the IF VCO", 17 DGNDIF (power) "Digital Ground Pin for the IF Digital, Interface, and Control Circuitry", 18 CPIF (out) "Output from the IF Charge Pump. This is normally connected to a loop filter that drives the input to an external VCO", 19 VP2 (power) "Power Supply for the IF Charge Pump", 20 VDD2 (power) "Power Supply for the IF, Digital, and Interface Section. Decoupling capacitors to the ground plane should be placed as close as possible to this pin. [see datasheet]"

## ADF4212LBRUZ-RL
designator U?
Dual Low Power PLL Frequency Synthesizer, RU-20, Pb-Free, 2500 Reel; Max RF Input (MHz): 2.4GHz; RF Prescalers: 16/17, 32/33, 64/65, 8/9; Max REFin (MHz): 150MHz; Norm Phase Noise (dBc/Hz): -215dBc; Frequency Range: 200MHz-2.4GHz; Supply Current: 7.5mA; DatasheetVersion: Rev. C; PackageVersion: 2000; PackageReference: RU-20; PackageDescription: 20-Lead Thin Shrink Small Outline Package [TSSOP]; Single/Dual: Dual; Code_JEDEC: MO-153AC; ComponentLink1Description: Manufacturer URL; ComponentLink1URL: www.analog.com; ComponentLink2Description: Datasheet; ComponentLink2URL: http://www.analog.com/static/imported-files/data_sheets/ADF4212L.pdf; ComponentLink3Description: Package Specification; ComponentLink3URL: http://www.analog.com/static/imported-files/packages/364515793657813558433715854054607941441RU20.pdf
footprint ADI-RU-20_N (TSOP, 20-Leads, Body 6.5x4.4mm, Pitch 0.65mm, IPC Medium Density)
footprint ADI-RU-20_L (TSOP, 20-Leads, Body 6.5x4.4mm, Pitch 0.65mm, IPC High Density)
footprint ADI-RU-20_M (TSOP, 20-Leads, Body 6.5x4.4mm, Pitch 0.65mm, IPC Low Density)
pins: 1 VDD1 (power) "Power Supply for the RF Section. Decoupling capacitors to the ground plane should be placed as close as possible to this pin. VDD1 should have a value of between 2.6 V and 3.3 V. [see datasheet]", 2 VP1 (power) "Power Supply for the RF Charge Pump.", 3 CPRF (out) "RF Charge Pump Output. When enabled, this provides +/-ICP to the external RF loop filter, which in turn drives the external RF VCO", 4 DGNDRF (power) "Digital Ground Pin for the RF Digital Circuitry", 5 RFIN (in) "Input to the RF Prescaler. This small signal input is normally ac-coupled from the RF VCO", 6 AGNDRF (power) "Ground Pin for the RF Analog Circuitry", 7 FLO (out) "Multiplexed Output of RF/IF Programmable or Reference Dividers, RF/IF Fastlock Mode. CMOS output", 8 REFIN (in) "Reference Input. This is a CMOS input with a nominal threshold of VDD/2 and an equivalent input resistance of 100 k ohm. See Figure 26. [see datasheet]", 9 DGNDIF (power) "Digital Ground Pin for the IF Digital, Interface, and Control Circuitry", 10 MUXOUT (out) "This multiplexer output allows either the IF/RF lock detect, the scaled RF, the scaled IF, or the scaled reference frequency to be accessed externally", 11 CLK (in) "Serial Clock Input. This serial clock is used to clock in the serial data to the registers. The data is latched into the 24-bit shift register on the CLK rising edge. [see datasheet]", 12 DATA (in) "Serial Data Input. The serial data is loaded MSB first with the two LSBs being the control bits. This input is a high impedance CMOS input", 13 LE (in) "Load Enable, CMOS Input. When LE goes high, the data stored in the shift registers is loaded into one of the four latches, with the latch selected using the control bits", 14 RSET (in) "Connecting a resistor between this pin and ground sets the maximum RF and IF charge pump output current. The nominal voltage potential at the RSET pin is 0.66 V", 15 AGNDIF (power) "Ground Pin for the IF Analog Circuitry", 16 IFIN (in) "Input to the IF Prescaler. This small signal input is normally ac-coupled from the IF VCO", 17 DGNDIF (power) "Digital Ground Pin for the IF Digital, Interface, and Control Circuitry", 18 CPIF (out) "Output from the IF Charge Pump. This is normally connected to a loop filter that drives the input to an external VCO", 19 VP2 (power) "Power Supply for the IF Charge Pump", 20 VDD2 (power) "Power Supply for the IF, Digital, and Interface Section. Decoupling capacitors to the ground plane should be placed as close as possible to this pin. [see datasheet]"